# Altium footprint library DAC70504RTET.PcbLib: 1 footprints
Each footprint in its own frame and in the unit in brackets; x right, y up, seen from the top. Pads: shape width x height; smd on the part's side, far side on the other; paste and mask are expansions set on the pad; w line width, h text height; cw(c..) or ccw(c..) is an arc to the next point about the centre after c.
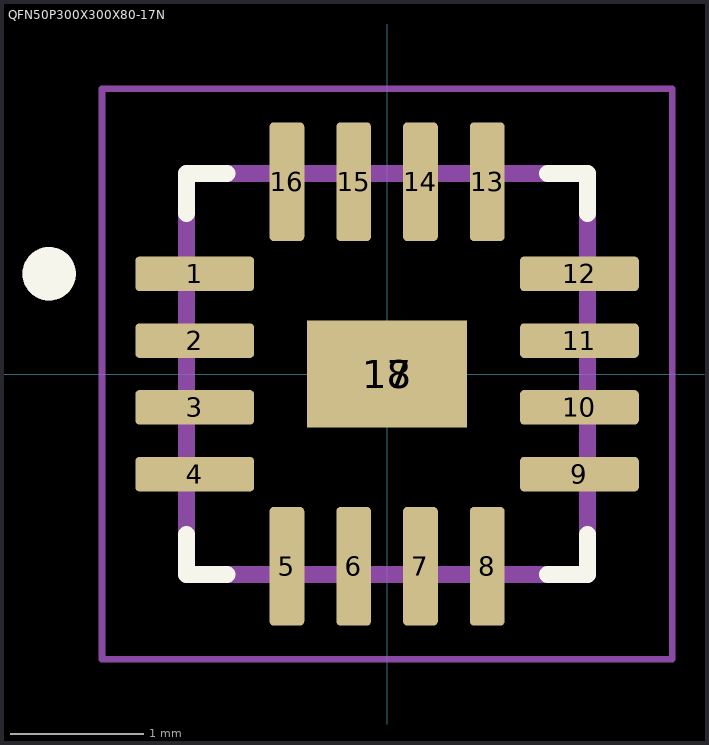
[diagram p0: the footprint, top view; thin cyan lines are the x and y axes]

## QFN50P300X300X80-17N [mm]
pads (18):
  rrect25% 0.89x0.26 smd: 1(-1.44,0.75) 2(-1.44,0.25) 3(-1.44,-0.25) 4(-1.44,-0.75) 9(1.44,-0.75) 10(1.44,-0.25) 11(1.44,0.25) 12(1.44,0.75)
  rrect25% 0.26x0.89 smd: 5(-0.75,-1.44) 6(-0.25,-1.44) 7(0.25,-1.44) 8(0.75,-1.44) 13(0.75,1.44) 14(0.25,1.44) 15(-0.25,1.44) 16(-0.75,1.44)
  rect 1.2x0.8 smd paste-2: 17(0,0)
  round 0.5 smd: 18(0,0)
Top Overlay:
  circle w0.2: c-2.53,0.75 r0.1
  lines w0.127: -1.5,-1.2 -1.5,-1.5 -1.2,-1.5 ; -1.5,1.2 -1.5,1.5 -1.2,1.5 ; 1.2,-1.5 1.5,-1.5 1.5,-1.2 ; 1.2,1.5 1.5,1.5 1.5,1.2
Top Paste:
  region: 0.38,-0.25 -0.38,-0.25 -0.38,0.25 0.38,0.25
Mechanical 13:
  circle w0.2: c-2.53,0.75 r0.1
  lines w0.127: -1.5,-1.5 1.5,-1.5 1.5,1.5 -1.5,1.5 -1.5,-1.5
Mechanical 15:
  lines w0.05: -2.135,-2.135 2.135,-2.135 2.135,2.135 -2.135,2.135 -2.135,-2.135
3D body "step_temp.STEP": height 0.8, standoff 0, extent -1.5,-1.5 1.5,1.5